# Altium schematic symbol library FPC16P.SchLib: 1 symbol
Pins are listed as number, name and electrical type; pins without a type are passive.

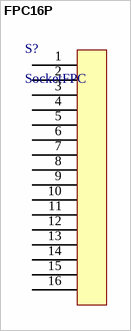
[diagram p0: symbol FPC16P]

## FPC16P
designator S?, comment SocketFPC
Socket FPC 16P 0.5mm
footprint FPC16P-0.5
pins: 1, 2, 3, 4, 5, 6, 7, 8, 9, 10, 11, 12, 13, 14, 15, 16